# Altium footprint library sar19-coral-connector.PcbLib: 2 footprints
Each footprint in its own frame and in the unit in brackets; x right, y up, seen from the top. Pads: shape width x height; smd on the part's side, far side on the other; paste and mask are expansions set on the pad; w line width, h text height; cw(c..) or ccw(c..) is an arc to the next point about the centre after c.
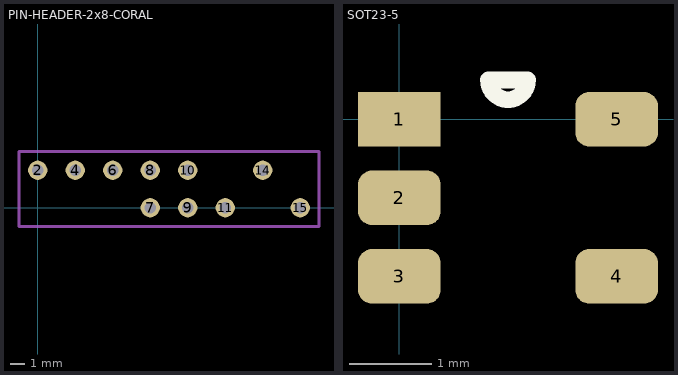
[diagram p0: the footprints below, top view; thin cyan lines are the x and y axes]

## PIN-HEADER-2x8-CORAL [mm]
pads (10):
  round 1.3 hole 0.8: 2(0,2.54) 4(2.54,2.54) 6(5.08,2.54) 7(7.62,0) 8(7.62,2.54) 9(10.16,0) 10(10.16,2.54) 11(12.7,0) 14(15.24,2.54) 15(17.78,0)
Mechanical 13:
  lines w0.2: -1.27,-1.27 -1.27,3.81 19.05,3.81 19.05,-1.27 -1.27,-1.27

## SOT23-5 [mm]
pads (5):
  rect 1x0.66 smd: 1(0,0)
  rrect50% 1x0.66 smd: 2(0,-0.95) 3(0,-1.9) 4(2.63,-1.9) 5(2.63,0)
Top Overlay:
  lines w0.2: 1.295,0.475 1.552,0.475 cw(c1.315,0.475) 1.077,0.475 1.335,0.475
3D body "CircuitWorks-SOT-23-5.step": height 1.11, standoff 0.01, extent 0.1,-2.475 2.6,0.525